# Altium footprint library PCB - CONNECTOR - MOLEX - MOLEX 0526102233.PcbLib: 1 footprints
Each footprint in its own frame and in the unit in brackets; x right, y up, seen from the top. Pads: shape width x height; smd on the part's side, far side on the other; paste and mask are expansions set on the pad; w line width, h text height; cw(c..) or ccw(c..) is an arc to the next point about the centre after c.
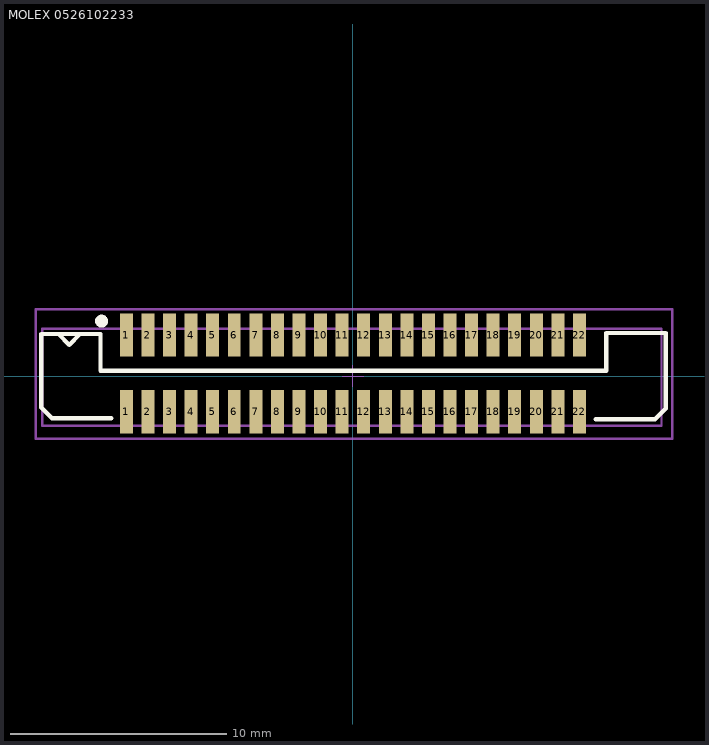
[diagram p0: the footprint, top view; thin cyan lines are the x and y axes]

## MOLEX 0526102233 [mm] "22 Position FPC Connector Contacts, Vertical - 1 Sided 0.039\" (1.00mm) Surface Mount"
height 7.25
pads (44):
  rect 0.6x2 smd mask+0.1: 1(-10.5,1.9) 1(-10.5,-1.65) 2(-9.5,1.9) 2(-9.5,-1.65) 3(-8.5,1.9) 3(-8.5,-1.65) 4(-7.5,1.9) 4(-7.5,-1.65) 5(-6.5,1.9) 5(-6.5,-1.65) 6(-5.5,1.9) 6(-5.5,-1.65) 7(-4.5,1.9) 7(-4.5,-1.65) 8(-3.5,1.9) 8(-3.5,-1.65) 9(-2.5,1.9) 9(-2.5,-1.65) 10(-1.5,1.9) 10(-1.5,-1.65) 11(-0.5,1.9) 11(-0.5,-1.65) 12(0.5,1.9) 12(0.5,-1.65) 13(1.5,1.9) 13(1.5,-1.65) 14(2.5,1.9) 14(2.5,-1.65) 15(3.5,1.9) 15(3.5,-1.65) 16(4.5,1.9) 16(4.5,-1.65) 17(5.5,1.9) 17(5.5,-1.65) 18(6.5,1.9) 18(6.5,-1.65) 19(7.5,1.9) 19(7.5,-1.65) 20(8.5,1.9) 20(8.5,-1.65) 21(9.5,1.9) 21(9.5,-1.65) 22(10.5,1.9) 22(10.5,-1.65)
Top Overlay:
  circle w0.3: c-11.65,2.55 r0.15
  lines w0.2: -13.65,1.95 -13.15,1.45 -12.65,1.95 ; -11.2,-1.95 -13.95,-1.95 -14.45,-1.45 -14.45,1.95 -11.7,1.95 -11.7,0.25 11.75,0.25 11.75,2 14.5,2 14.5,1.6 14.5,-1.5 14,-2 11.25,-2
Mechanical 13:
  lines w0.1: -14.4,-2.3 -14.4,2.2 14.3,2.2 14.3,-2.3 -14.4,-2.3
Mechanical 15 (Mech15):
  lines w0.05: -0.5,0 0,0 ; 0,-0.5 0,0 ; 0,0.5 0,0 ; 0.5,0 0,0
  lines w0.1: -14.7,-2.9 -14.7,3.1 14.8,3.1 14.8,-2.9 -14.7,-2.9
3D body "Molex - 526102233.stp": height 5.73, standoff -0.02, extent -14.3,-2.25 14.3,2.25